# Altium schematic symbol library 0ZCJ0025FF2E.SchLib: 1 symbol
Pins are listed as number, name and electrical type; pins without a type are passive.

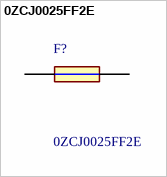
[diagram p0: symbol 0ZCJ0025FF2E]

## 0ZCJ0025FF2E
designator F?
BEL FUSE - CIRCUIT PROTECTION - 0ZCJ0025FF2E - FUSE, RESETTABLE PTC, 16VDC, 0.25A, SMD; Manufacturer_Name: Bel Circuit Protection; Geometry.Height: 0.75mm; Mouser Part Number: *; Mouser Price/Stock: *; Manufacturer_Part_Number: 0ZCJ0025FF2E; Datasheet Link: https://componentsearchengine.com/Datasheets/2/0ZCJ0025FF2E.pdf
footprint FUSC3216X75N
pins: 1, 2